# EAGLE library part RADIO_RFM69H (library Femtosat)
Hope RF RFM69H ISM Transceiver Module The RFM69H is a transceiver module capable of operation over a wide frequency range, including the 315,433,868 and 915MHz license-free ISM (Industry Scientific and Medical) frequency bands. All major RF communication parameters are programmable and most of them can be dynamically set. The RFM69H offers the unique advantage of programmable narrow-band and wide- band communication modes. The RFM69H is optimized for low power consumption while offering high RF output power and channelized operation.Compliance ETSI and FCC regulations. Datasheet <http://www.hoperf.cn/upload/docs/RF/SX/RFM69H_DataSheet_v1.3.pdf> Adapted from SparkFun Libraries
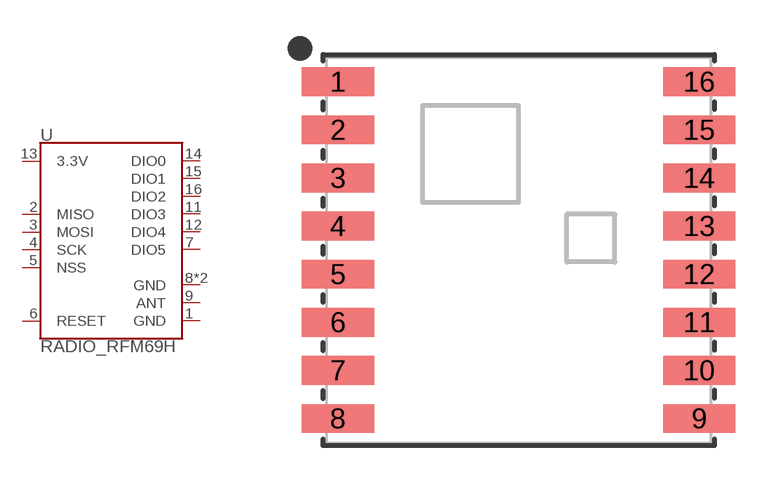
[diagram p1: symbol with the pads of RFM69HCW-XXXS2; footprint RFM69HCW-XXXS2]

Designator prefix U

## RADIO_RFM69HCW-915 (LINK: http://www.anarduino.com/details.jsp?pid=162; VALUE: 915MHz)  [RFM69HCW-XXXS2]
1  GND  pwr
2  MISO
3  MOSI  in
4  SCK  in
5  NSS  in
6  RESET  in
7  DIO5
8  GND  pwr
9  ANT  pas
10  GND  pwr
11  DIO3
12  DIO4
13  3.3V  pwr
14  DIO0
15  DIO1
16  DIO2

## Footprint RFM69HCW-XXXS2 (pad centres in mm)
Hope RF RFM69HCW RF Transciever Datasheet <http://www.orcam.eu/res/Datablad/rfm69hcwv11.pdf>
smd 3 x 1.2: 1 -7.5,7; 2 -7.5,5; 3 -7.5,3; 4 -7.5,1; 5 -7.5,-1; 6 -7.5,-3; 7 -7.5,-5; 8 -7.5,-7; 9 7.5,-7; 10 7.5,-5; 11 7.5,-3; 12 7.5,-1; 13 7.5,1; 14 7.5,3; 15 7.5,5; 16 7.5,7